# Altium footprint library Synthiam.PcbLib: 481 footprints (part 20 of 31)
Each footprint in its own frame and in the unit in brackets; x right, y up, seen from the top. Pads: shape width x height; smd on the part's side, far side on the other; paste and mask are expansions set on the pad; w line width, h text height; cw(c..) or ccw(c..) is an arc to the next point about the centre after c.
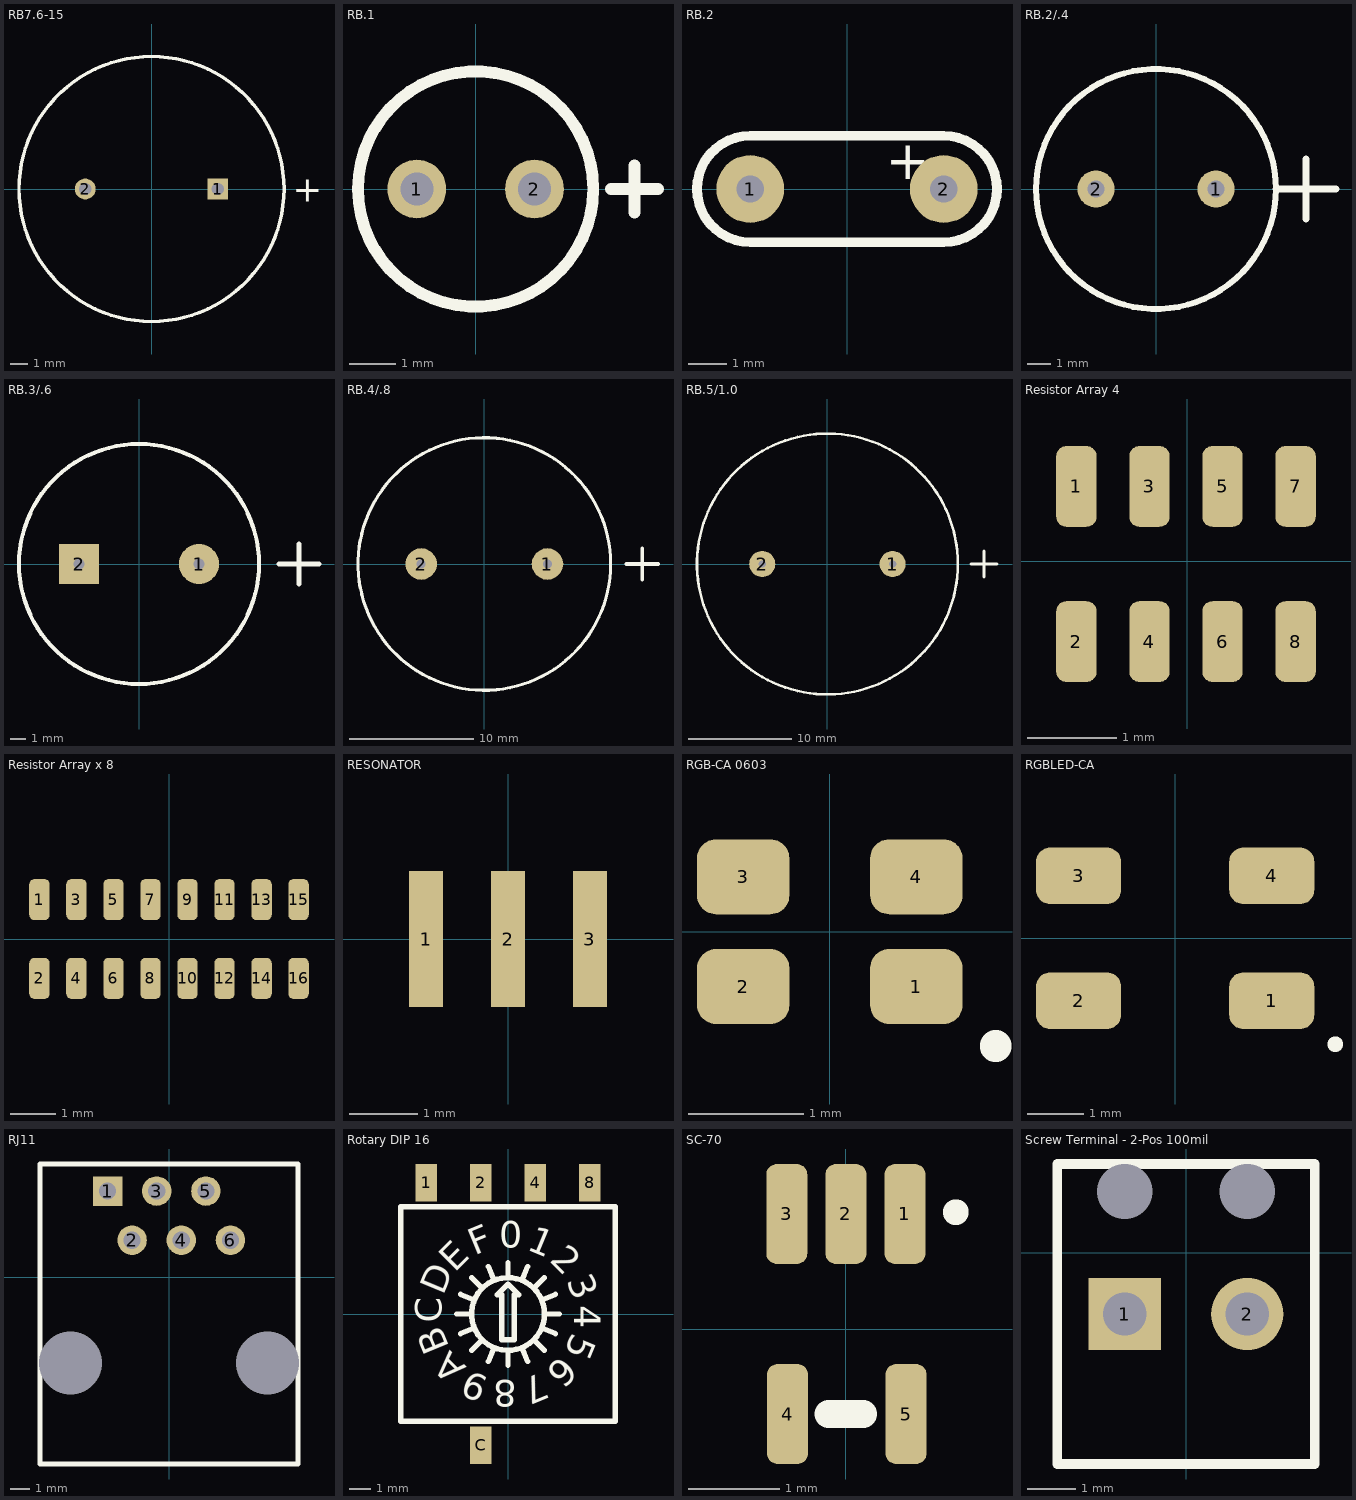
[diagram p19: the footprints below, top view; thin cyan lines are the x and y axes]

## RB7.6-15 [mm] "Polarized Capacitor (Radial); 2 Leads"
pads (2):
  rect 1.2x1.2 hole 0.7: 1(3.81,0)
  round 1.2 hole 0.7: 2(-3.81,0)
Top Overlay:
  circle w0.2: c0,0 r7.62
  text "+" at 8.132,-0.737 h1.5

## RB.1 [mil]
pads (2):
  round 50 hole 28: 1(-50,0) 2(50,0)
Top Overlay:
  circle w10: c0,0 r100
  lines w10: 115,0 155,0 ; 135,-20 135,20

## RB.2 [mil]
pads (2):
  round 70 hole 28: 1(-100,0) 2(100,0)
Top Overlay:
  lines w10: -100,-55 cw(c-100,0) -100,55 100,55 cw(c100,0) 100,-55 -100,-55
  text "+" at 40,10 h40

## RB.2/.4 [mil]
pads (2):
  round 62 hole 28: 1(100,0) 2(-100,0)
Top Overlay:
  circle w10: c0,0 r200
  lines w12: 200,0 300,0 ; 250,-50 250,50

## RB.3/.6 [mil]
pads (2):
  round 100 hole 28: 1(150,0)
  rect 100x100 hole 28: 2(-150,0)
Top Overlay:
  circle w10: c0,0 r300
  lines w12: 350,0 450,0 ; 400,-50 400,50

## RB.4/.8 [mil]
pads (2):
  round 100 hole 28: 1(200,0) 2(-200,0)
Top Overlay:
  circle w10: c0,0 r400
  lines w12: 450,0 550,0 ; 500,-50 500,50

## RB.5/1.0 [mil]
pads (2):
  round 100 hole 28: 1(250,0) 2(-250,0)
Top Overlay:
  circle w10: c0,0 r500
  lines w12: 550,0 650,0 ; 600,-50 600,50

## Resistor Array 4 [mm]
pads (8):
  rrect50% 0.45x0.9 smd: 1(-1.235,0.834) 2(-1.235,-0.894) 3(-0.422,0.834) 4(-0.422,-0.894) 5(0.391,0.834) 6(0.391,-0.894) 7(1.204,0.834) 8(1.204,-0.894)

## Resistor Array x 8 [mil]
pads (16):
  rrect50% 17.72x35.43 smd: 1(-112,34) 2(-112,-34) 3(-80,34) 4(-80,-34) 5(-48,34) 6(-48,-34) 7(-16,34) 8(-16,-34) 9(16,34) 10(16,-34) 11(48,34) 12(48,-34) 13(80,34) 14(80,-34) 15(112,34) 16(112,-34)

## RESONATOR [mm] "12Mhz resonator"
height 0.7
pads (3):
  rect 0.5x2 smd: 1(-1.2,0) 2(0,0) 3(1.2,0)

## RGB-CA 0603 [mm]
pads (4):
  rrect50% 0.8x0.65 smd: 1(0.75,-0.475) 2(-0.75,-0.475) 3(-0.75,0.475) 4(0.75,0.475)
Top Overlay:
  circle w0.254: c1.437,-0.991 r0.011

## RGBLED-CA [mm]
pads (4):
  rrect50% 1.5x1 smd: 1(1.7,-1.1) 2(-1.7,-1.1) 3(-1.7,1.1) 4(1.7,1.1)
Top Overlay:
  circle w0.254: c2.82,-1.865 r0.011

## RJ11 [mil]
pads (8):
  round 0 hole 128: 0(-200,-175) 0(200,-175)
  rect 60x60 hole 35: 1(-125,175)
  round 60 hole 35: 2(-75,75) 3(-25,175) 4(25,75) 5(75,175) 6(125,75)
Top Overlay:
  lines w10: -262.5,-380 262.5,-380 262.5,230 -262.5,230 -262.5,-380

## Rotary DIP 16 [mm] "NKK FR02FC10P"
height 3.9
pads (5):
  rect 1x1.75 smd: 1(-3.81,6.125) 2(-1.27,6.125) 4(1.27,6.125) 8(3.81,6.125) C(-1.27,-6.125)
Top Overlay:
  circle w0.254: c0,0 r1.7
  lines w0.254: -2.4,0 -1.7,0 ; -2.217,-0.918 -1.571,-0.651 ; -2.217,0.918 -1.571,0.651 ; -1.697,-1.697 -1.202,-1.202 ; -1.697,1.697 -1.202,1.202 ; -0.918,-2.217 -0.651,-1.571 ; -0.918,2.217 -0.651,1.571 ; 0,-2.4 0,-1.7 ; 0,1.7 0,2.4 ; 0.651,-1.571 0.918,-2.217 ; 0.651,1.571 0.918,2.217 ; 1.202,-1.202 1.697,-1.697 ; 1.202,1.202 1.697,1.697 ; 1.571,-0.651 2.217,-0.918 ; 1.571,0.651 2.217,0.918 ; 1.7,0 2.4,0 ; -5,-5 -5,5 5,5 5,-5 -5,-5 ; -0.5,0.9 -0.3,0.9 -0.3,-1.2 0.3,-1.2 0.3,0.9 0.5,0.9 0,1.4 -0.5,0.9
  text "1" at 0.817,3.017 h1.25
  text "2" at 1.909,2.475 h1.25
  text "3" at 2.711,1.556 h1.25
  text "4" at 3.1,0.4 h1.25
  text "5" at 3.017,-0.817 h1.25
  text "6" at 2.475,-1.909 h1.25
  text "7" at 1.556,-2.711 h1.25
  text "8" at 0.4,-3.1 h1.25
  text "9" at -0.817,-3.017 h1.25
  text "A" at -1.909,-2.475 h1.25
  text "B" at -2.711,-1.556 h1.25
  text "C" at -3.1,-0.4 h1.25
  text "D" at -3.017,0.817 h1.25
  text "E" at -2.475,1.909 h1.25
  text "F" at -1.556,2.711 h1.25
  text "0" at -0.4,3.1 h1.25
3D body: height 4, standoff 0, extent -5,-5 5,5

## SC-70 [mm]
pads (5):
  rrect50% 0.45x1.1 smd: 1(0.65,1.27) 2(0,1.27) 3(-0.65,1.27) 4(-0.642,-0.93) 5(0.662,-0.93)
Top Overlay:
  circle w0.254: c1.21,1.29 r0.014
  lines w0.305: -0.19,-0.93 0.191,-0.93

## Screw Terminal - 2-Pos 100mil [mm]
pads (4):
  round 0 hole 1.143: 0(-1.27,1.27) 0(1.27,1.27)
  rect 1.5x1.5 hole 0.9: 1(-1.27,-1.27)
  round 1.5 hole 0.9: 2(1.27,-1.27)
Top Overlay:
  lines w0.2: -2.667,-4.381 -2.667,1.841 2.667,1.841 2.667,-4.381 -2.667,-4.381